# Altium integrated library MainBoard.IntLib: 44 symbols
Pins are listed as number, name and electrical type; pins without a type are passive.

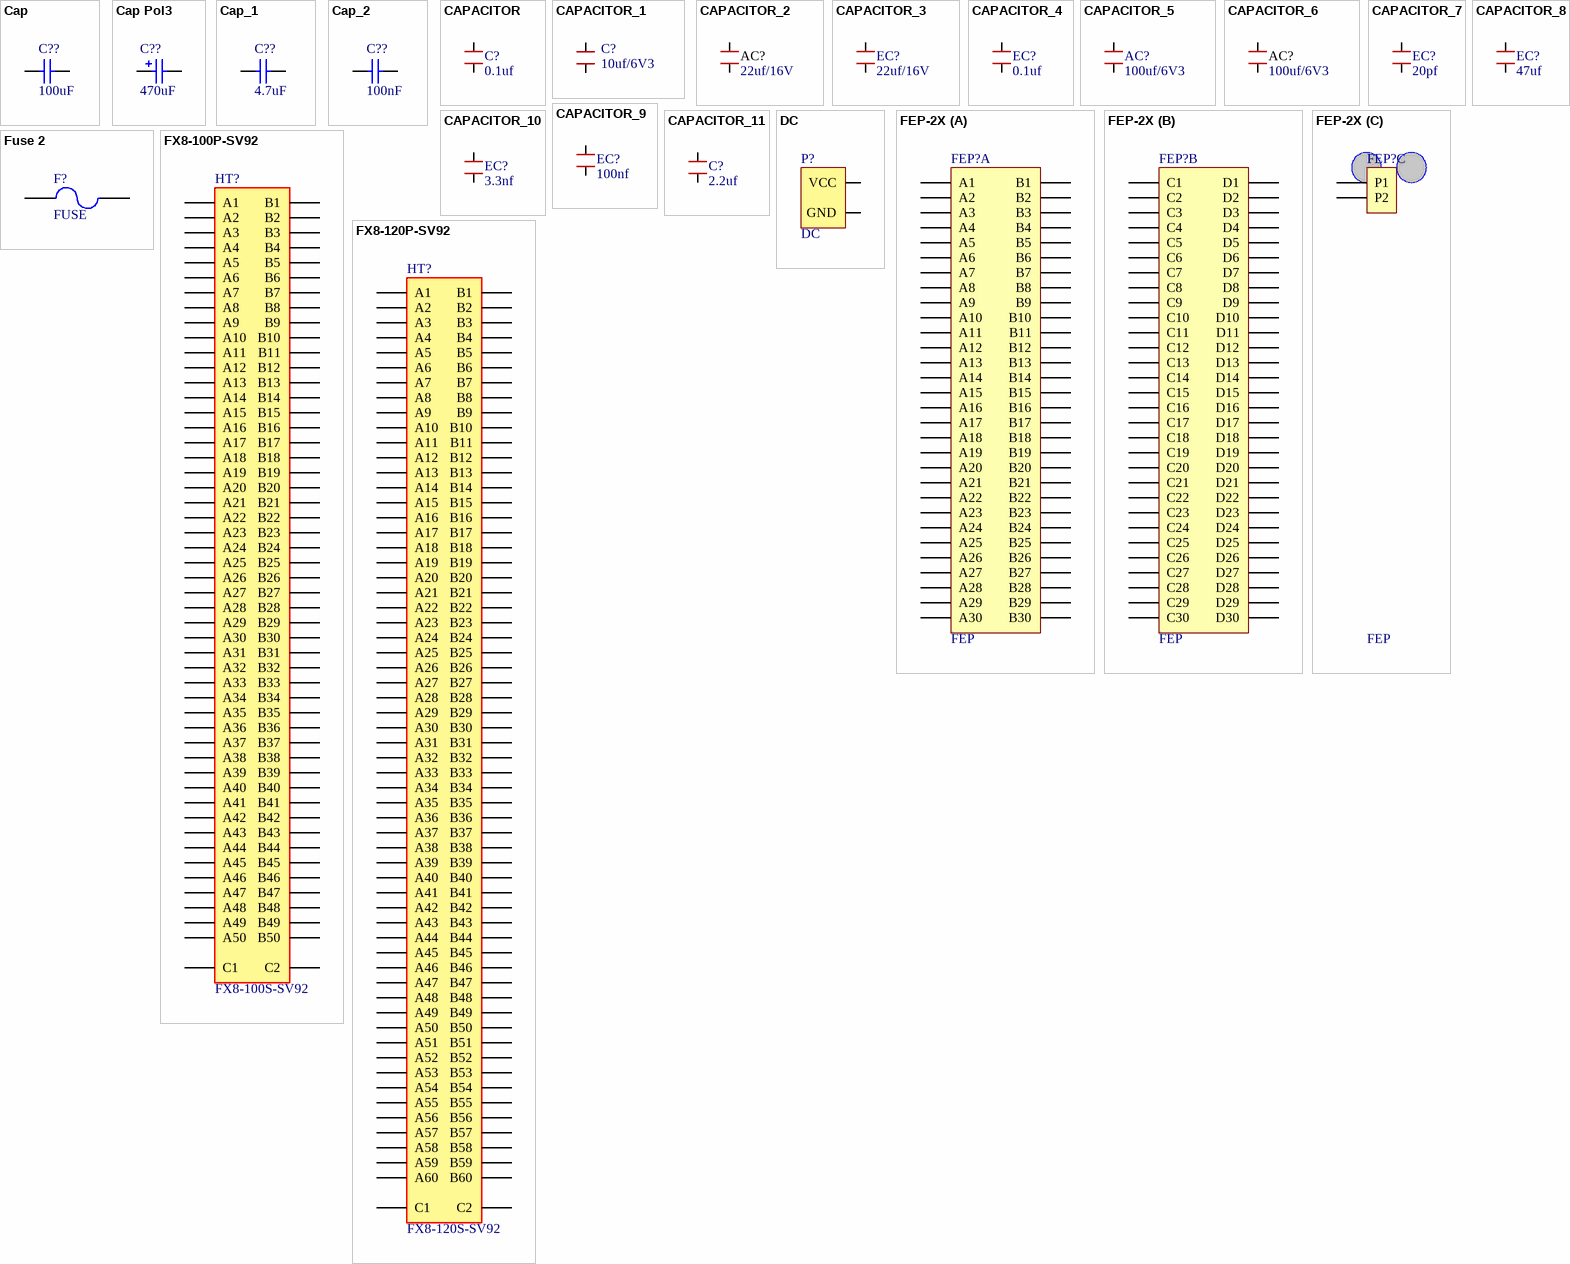
[diagram p0: symbols Cap to FX8-120P-SV92]

## Cap
designator C??  value 100uF  (hidden comment: Cap)
Capacitor; Published: 8-Jun-2000; LatestRevisionDate: 17-Jul-2002; LatestRevisionNote: Re-released for DXP Platform.; PackageReference: RAD-0.3; Publisher: Altium Limited; PackageDescription: Radial Cap, Thru-Hole; 2 Leads; 0.3 in Pin Spacing
footprint RAD-0.3 (Radial Cap, Thru-Hole; 2 Leads; 0.3 in Pin Spacing)
simulation model CAP (Capacitor)
signal-integrity model Cap
pins: 1, 2

## Cap Pol3
designator C??  value 470uF  (hidden comment: Cap Pol3)
Polarized Capacitor (Surface Mount); Published: 8-Jun-2000; LatestRevisionDate: 29-May-2009; LatestRevisionNote: IPC-7351 Footprint Added.; PackageReference: C0805; Publisher: Altium Limited; PackageDescription: Chip Capacitor
footprint C0805 (Chip Capacitor, Body 2.0x1.3mm, IPC High Density)
footprint 1812 (Chip Capacitor, Body 4.5x3.2mm, IPC High Density)
footprint 1825 (Chip Capacitor, Body 4.5x6.4mm, IPC High Density)
footprint C2225 (Chip Capacitor, Body 5.7x6.4mm, IPC High Density)
footprint 2220 (Chip Capacitor, Body 5.7x5.0mm, IPC High Density)
simulation model CAP (Capacitor)
signal-integrity model Cap Pol
pins: 1, 2
1 alternate drawing of the same symbol

## Cap_1
designator C??, comment value 4.7uF  (hidden comment: Cap)
Capacitor; Published: 8-Jun-2000; LatestRevisionDate: 17-Jul-2002; LatestRevisionNote: Re-released for DXP Platform.; PackageReference: RAD-0.3; Publisher: Altium Limited; PackageDescription: Radial Cap, Thru-Hole; 2 Leads; 0.3 in Pin Spacing
footprint RAD-0.3 (Radial Cap, Thru-Hole; 2 Leads; 0.3 in Pin Spacing)
simulation model CAP (Capacitor)
signal-integrity model Cap
pins: 1, 2

## Cap_2
designator C??, comment value 100nF  (hidden comment: Cap)
Capacitor; Published: 8-Jun-2000; LatestRevisionDate: 17-Jul-2002; LatestRevisionNote: Re-released for DXP Platform.; PackageReference: RAD-0.3; Publisher: Altium Limited; PackageDescription: Radial Cap, Thru-Hole; 2 Leads; 0.3 in Pin Spacing
footprint RAD-0.3 (Radial Cap, Thru-Hole; 2 Leads; 0.3 in Pin Spacing)
simulation model CAP (Capacitor)
signal-integrity model Cap
pins: 1, 2

## CAPACITOR
designator C?, comment 0.1uf
Generic Capacitor; DPN: *; Manufacturer: *
footprint CAP0402
footprint CAP0603 (Chip Capacitor, 2-Leads, Body 1.6x0.8mm, IPC High Density)
footprint CAP0805 (Chip Capacitor, 2-Leads, Body 2.0x1.3mm, IPC High Density)
footprint CAP1210 (Chip Capacitor, 2-Leads, Body 3.2x2.5mm, IPC High Density)
pins: 1, 2

## CAPACITOR_1
designator C?, comment 10uf/6V3
Generic Capacitor; Value: 4.7uF; DPN: *; Manufacturer: *
footprint CAP0402 (Chip Capacitor, 2-Leads, Body 1.0x0.5mm, IPC High Density)
footprint CAP0603
footprint CAP0805 (Chip Capacitor, 2-Leads, Body 2.0x1.3mm, IPC High Density)
footprint CAP1210 (Chip Capacitor, 2-Leads, Body 3.2x2.5mm, IPC High Density)
pins: 1, 2

## CAPACITOR_2
designator AC?, comment 22uf/16V
Generic Capacitor; Value: 10nF; DPN: *; Manufacturer: *
footprint 0402C
footprint CAP1206
footprint CAP0805 (Chip Capacitor, 2-Leads, Body 2.0x1.3mm, IPC High Density)
footprint CAP1210 (Chip Capacitor, 2-Leads, Body 3.2x2.5mm, IPC High Density)
pins: 1, 2

## CAPACITOR_3
designator EC?, comment 22uf/16V
Generic Capacitor; DPN: *; Manufacturer: *
footprint CAP0402
footprint CAP1206 (Footprint not found)
footprint CAP0603
footprint CAP1210 (Chip Capacitor, 2-Leads, Body 3.2x2.5mm, IPC High Density)
pins: 1, 2

## CAPACITOR_4
designator EC?, comment 0.1uf
Generic Capacitor; DPN: *; Manufacturer: *
footprint CAP0402
footprint CAP0603 (Chip Capacitor, 2-Leads, Body 1.6x0.8mm, IPC High Density)
footprint CAP1206 (Footprint not found)
footprint CAP1210 (Chip Capacitor, 2-Leads, Body 3.2x2.5mm, IPC High Density)
pins: 1, 2

## CAPACITOR_5
designator AC?, comment 100uf/6V3
Generic Capacitor; DPN: *; Manufacturer: *
footprint CAP0402
footprint CAP1206 (Footprint not found)
footprint CAP1206 (Footprint not found)
footprint CAP1210 (Chip Capacitor, 2-Leads, Body 3.2x2.5mm, IPC High Density)
pins: 1, 2

## CAPACITOR_6
designator AC?, comment 100uf/6V3
Generic Capacitor; Value: 10nF; DPN: *; Manufacturer: *
footprint 0402C
footprint CAP1206 (Footprint not found)
footprint CAP0805 (Chip Capacitor, 2-Leads, Body 2.0x1.3mm, IPC High Density)
footprint CAP1210 (Chip Capacitor, 2-Leads, Body 3.2x2.5mm, IPC High Density)
pins: 1, 2

## CAPACITOR_7
designator EC?, comment 20pf
Generic Capacitor; DPN: *; Manufacturer: *
footprint CAP0402
footprint CAP0603 (Chip Capacitor, 2-Leads, Body 1.6x0.8mm, IPC High Density)
footprint CAP1206 (Footprint not found)
footprint CAP1210 (Chip Capacitor, 2-Leads, Body 3.2x2.5mm, IPC High Density)
pins: 1, 2

## CAPACITOR_8
designator EC?, comment 47uf
Generic Capacitor; DPN: *; Manufacturer: *
footprint CAP0402
footprint CAP0603
footprint CAP1206 (Footprint not found)
footprint CAP1210 (Chip Capacitor, 2-Leads, Body 3.2x2.5mm, IPC High Density)
pins: 1, 2

## CAPACITOR_9
designator EC?, comment 100nf
Generic Capacitor; DPN: *; Manufacturer: *
footprint CAP0402
footprint CAP0402
footprint CAP1206 (Footprint not found)
footprint CAP1210 (Chip Capacitor, 2-Leads, Body 3.2x2.5mm, IPC High Density)
pins: 1, 2

## CAPACITOR_10
designator EC?, comment 3.3nf
Generic Capacitor; DPN: *; Manufacturer: *
footprint CAP0402
footprint CAP0603 (Chip Capacitor, 2-Leads, Body 1.6x0.8mm, IPC High Density)
footprint CAP1206 (Footprint not found)
footprint CAP1210 (Chip Capacitor, 2-Leads, Body 3.2x2.5mm, IPC High Density)
pins: 1, 2

## CAPACITOR_11
designator C?, comment 2.2uf
Generic Capacitor; DPN: *; Manufacturer: *
footprint CAP0402
footprint CAP0603 (Chip Capacitor, 2-Leads, Body 1.6x0.8mm, IPC High Density)
footprint CAP0805 (Chip Capacitor, 2-Leads, Body 2.0x1.3mm, IPC High Density)
footprint CAP1210 (Chip Capacitor, 2-Leads, Body 3.2x2.5mm, IPC High Density)
pins: 1, 2

## DC
designator P?
footprint DC2.5
footprint DC5.0
footprint DC031A
pins: 1 VCC, 2 GND

## FEP-2X
designator FEP?, comment FEP
footprint FEP-X2
part A pins: A1, A2, A3, A4, A5, A6, A7, A8, A9, A10, A11, A12, A13, A14, A15, A16, A17, A18, A19, A20, A21, A22, A23, A24, A25, A26, A27, A28, A29, A30, B1, B2, B3, B4, B5, B6, B7, B8, B9, B10, B11, B12, B13, B14, B15, B16, B17, B18, B19, B20, B21, B22, B23, B24, B25, B26, B27, B28, B29, B30
part B pins: C1, C2, C3, C4, C5, C6, C7, C8, C9, C10, C11, C12, C13, C14, C15, C16, C17, C18, C19, C20, C21, C22, C23, C24, C25, C26, C27, C28, C29, C30, D1, D2, D3, D4, D5, D6, D7, D8, D9, D10, D11, D12, D13, D14, D15, D16, D17, D18, D19, D20, D21, D22, D23, D24, D25, D26, D27, D28, D29, D30
part C pins: P1, P2

## Fuse 2
designator F?, comment FUSE
Published: 8-Jun-2000; LatestRevisionDate: 17-Jul-2002; LatestRevisionNote: Re-released for DXP Platform.; PackageReference: PIN-W2/E2.8; Publisher: Altium Limited
footprint 1206
simulation model FUSE (Spice Subcircuit)
pins: 1, 2

## FX8-100P-SV92
designator HT?, comment FX8-100S-SV92
footprint FX8-100S-SV92
pins: A1, A2, A3, A4, A5, A6, A7, A8, A9, A10, A11, A12, A13, A14, A15, A16, A17, A18, A19, A20, A21, A22, A23, A24, A25, A26, A27, A28, A29, A30, A31, A32, A33, A34, A35, A36, A37, A38, A39, A40, A41, A42, A43, A44, A45, A46, A47, A48, A49, A50, B1, B2, B3, B4, B5, B6, B7, B8, B9, B10, B11, B12, B13, B14, B15, B16, B17, B18, B19, B20, B21, B22, B23, B24, B25, B26, B27, B28, B29, B30, B31, B32, B33, B34, B35, B36, B37, B38, B39, B40, B41, B42, B43, B44, B45, B46, B47, B48, B49, B50, C1, C2

## FX8-120P-SV92
designator HT?, comment FX8-120S-SV92
footprint FX8-120S-SV92
pins: A1, A2, A3, A4, A5, A6, A7, A8, A9, A10, A11, A12, A13, A14, A15, A16, A17, A18, A19, A20, A21, A22, A23, A24, A25, A26, A27, A28, A29, A30, A31, A32, A33, A34, A35, A36, A37, A38, A39, A40, A41, A42, A43, A44, A45, A46, A47, A48, A49, A50, A51, A52, A53, A54, A55, A56, A57, A58, A59, A60, B1, B2, B3, B4, B5, B6, B7, B8, B9, B10, B11, B12, B13, B14, B15, B16, B17, B18, B19, B20, B21, B22, B23, B24, B25, B26, B27, B28, B29, B30, B31, B32, B33, B34, B35, B36, B37, B38, B39, B40, B41, B42, B43, B44, B45, B46, B47, B48, B49, B50, B51, B52, B53, B54, B55, B56, B57, B58, B59, B60, C1, C2

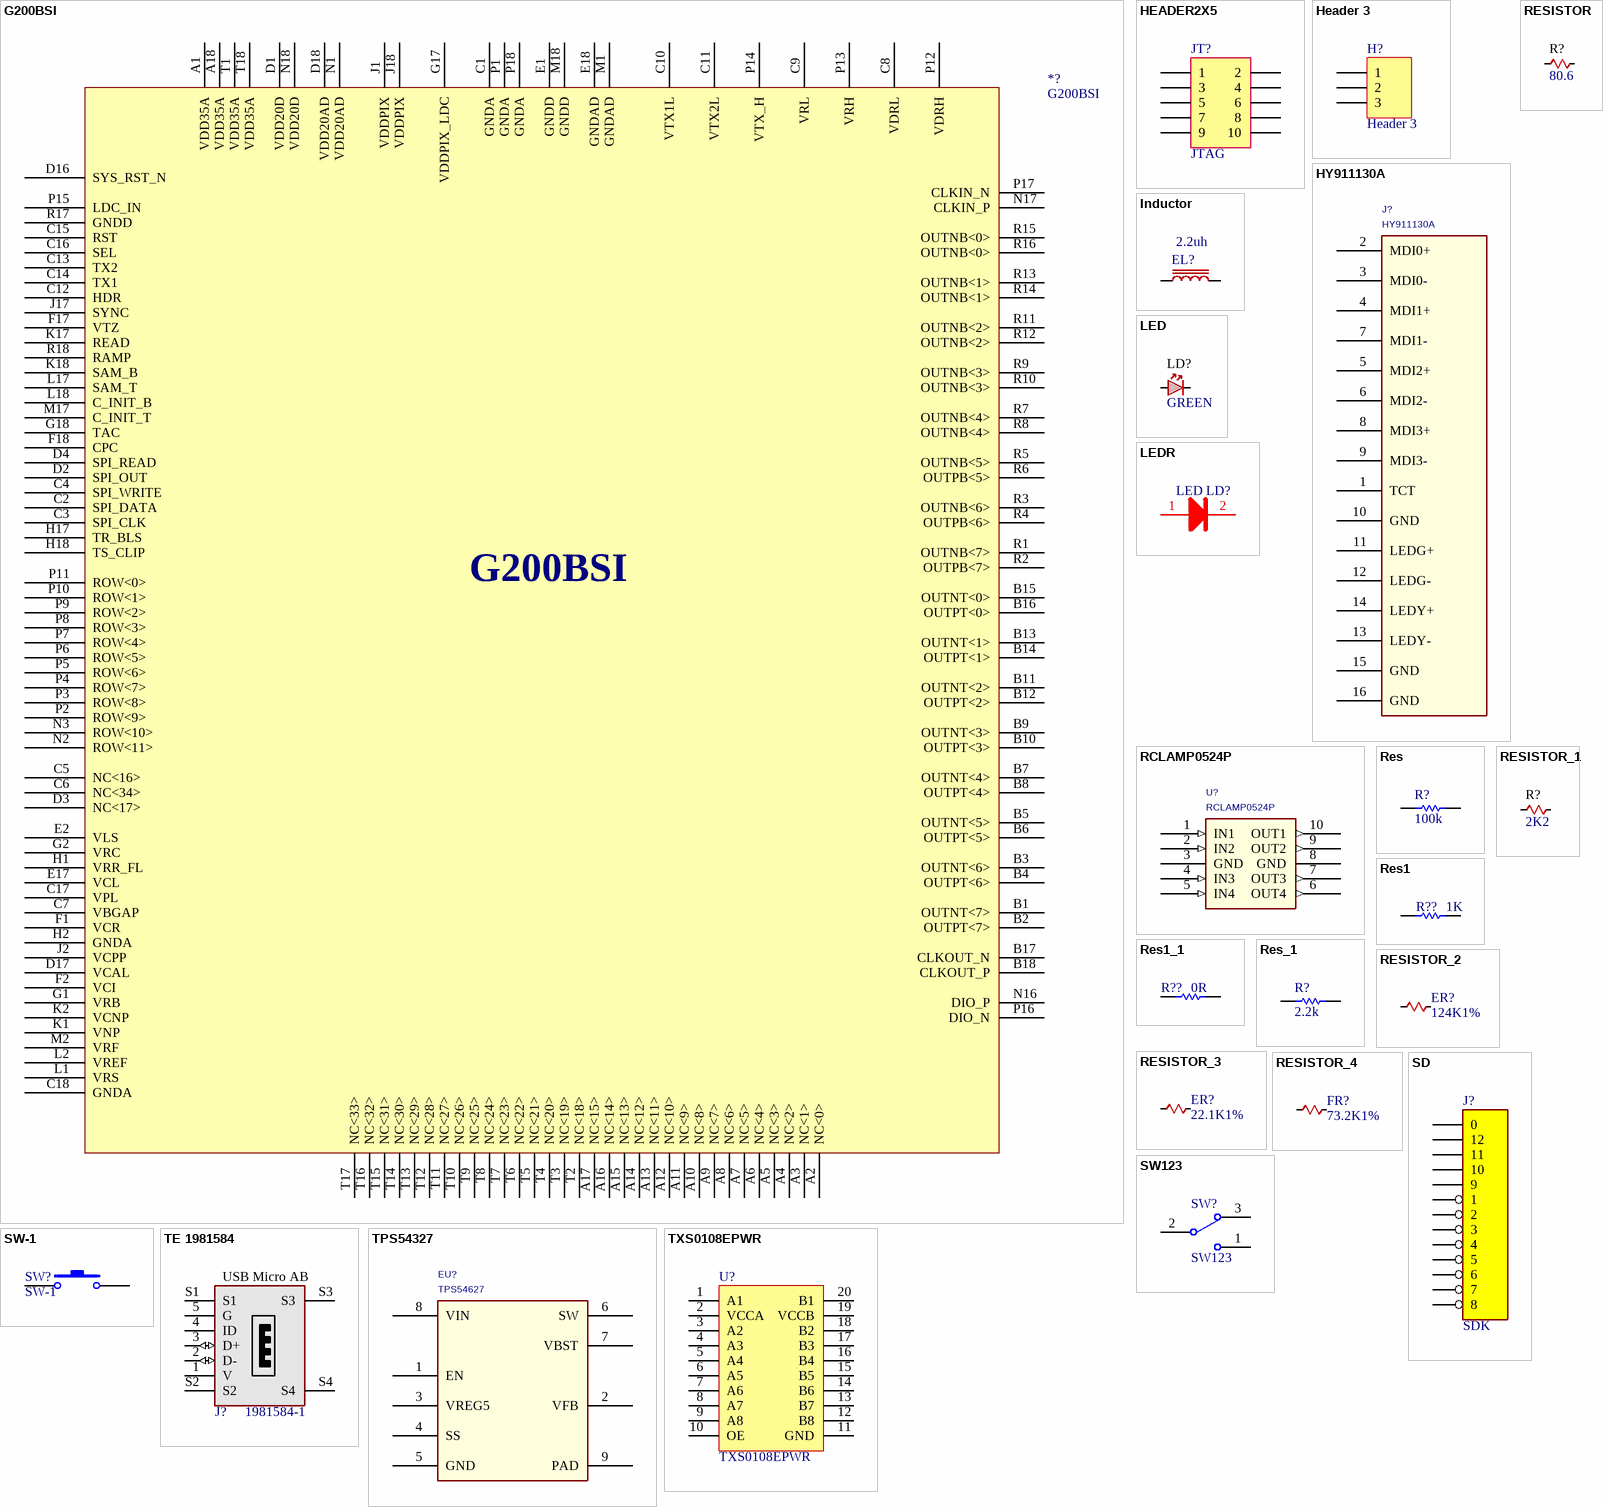
[diagram p1: symbols G200BSI to TXS0108EPWR]

## G200BSI
designator *?
pins: A1 VDD35A, A2 NC<0>, A3 NC<1>, A4 NC<2>, A5 NC<3>, A6 NC<4>, A7 NC<5>, A8 NC<6>, A9 NC<7>, A10 NC<8>, A11 NC<9>, A12 NC<10>, A13 NC<11>, A14 NC<12>, A15 NC<13>, A16 NC<14>, A17 NC<15>, A18 VDD35A, B1 OUTNT<7>, B2 OUTPT<7>, B3 OUTNT<6>, B4 OUTPT<6>, B5 OUTNT<5>, B6 OUTPT<5>, B7 OUTNT<4>, B8 OUTPT<4>, B9 OUTNT<3>, B10 OUTPT<3>, B11 OUTNT<2>, B12 OUTPT<2>, B13 OUTNT<1>, B14 OUTPT<1>, B15 OUTNT<0>, B16 OUTPT<0>, B17 CLKOUT_N, B18 CLKOUT_P, C1 GNDA, C2 SPI_DATA, C3 SPI_CLK, C4 SPI_WRITE, C5 NC<16>, C6 NC<34>, C7 VBGAP, C8 VDRL, C9 VRL, C10 VTX1L, C11 VTX2L, C12 HDR, C13 TX2, C14 TX1, C15 RST, C16 SEL, C17 VPL, C18 GNDA, D1 VDD20D, D2 SPI_OUT, D3 NC<17>, D4 SPI_READ, D16 SYS_RST_N, D17 VCAL, D18 VDD20AD, E1 GNDD, E2 VLS, E17 VCL, E18 GNDAD, F1 VCR, F2 VCI, F17 VTZ, F18 CPC, G1 VRB, G2 VRC, G17 VDDPIX_LDC, G18 TAC, H1 VRR_FL, H2 GNDA, H17 TR_BLS, H18 TS_CLIP, J1 VDDPIX, J2 VCPP, J17 SYNC, J18 VDDPIX, K1 VNP, K2 VCNP, K17 READ, K18 SAM_B, L1 VRS, L2 VREF, L17 SAM_T, L18 C_INIT_B, M1 GNDAD, M2 VRF, M17 C_INIT_T, M18 GNDD, N1 VDD20AD, N2 ROW<11>, N3 ROW<10>, N16 DIO_P, N17 CLKIN_P, N18 VDD20D, P1 GNDA, P2 ROW<9>, P3 ROW<8>, P4 ROW<7>, P5 ROW<6>, P6 ROW<5>, P7 ROW<4>, P8 ROW<3>, P9 ROW<2>, P10 ROW<1>, P11 ROW<0>, P12 VDRH, P13 VRH, P14 VTX_H, P15 LDC_IN, P16 DIO_N, P17 CLKIN_N, P18 GNDA, R1 OUTNB<7>, R2 OUTPB<7>, R3 OUTNB<6>, R4 OUTPB<6>, R5 OUTNB<5>, R6 OUTPB<5>, R7 OUTNB<4>, R8 OUTNB<4>, R9 OUTNB<3>, R10 OUTNB<3>, R11 OUTNB<2>, R12 OUTNB<2>, R13 OUTNB<1>, R14 OUTNB<1>, R15 OUTNB<0>, R16 OUTNB<0>, R17 GNDD, R18 RAMP, T1 VDD35A, T2 NC<18>, T3 NC<19>, T4 NC<20>, T5 NC<21>, T6 NC<22>, T7 NC<23>, T8 NC<24>, T9 NC<25>, T10 NC<26>, T11 NC<27>, T12 NC<28>, T13 NC<29>, T14 NC<30>, T15 NC<31>, T16 NC<32>, T17 NC<33>, T18 VDD35A

## HEADER2X5
designator JT?, comment JTAG
footprint HEADER2X5X2.5
footprint HEADER5X2X2.0T
footprint HEADER2X5-2.0
pins: 1, 2, 3, 4, 5, 6, 7, 8, 9, 10

## Header 3
designator H?
Header, 3-Pin; LatestRevisionDate: 17-Jul-2002; LatestRevisionNote: Re-released for DXP Platform.; Publisher: Altium Limited
footprint HDR1X3 (Connector; Header; 3 Position)
signal-integrity model Connector
footprint CON3
footprint HD3
footprint KF7.62-3
pins: 1, 2, 3

## HY911130A
designator J?
footprint HY911130A
pins: 1 TCT, 2 MDI0+, 3 MDI0-, 4 MDI1+, 5 MDI2+, 6 MDI2-, 7 MDI1-, 8 MDI3+, 9 MDI3-, 10 GND (power), 11 LEDG+, 12 LEDG-, 13 LEDY-, 14 LEDY+, 15 GND (power), 16 GND (power)

## Inductor
designator EL?, comment 2.2uh
Generic Inductor; DPN: *; Manufacturer: *
footprint L4X4X2 (Footprint not found)
footprint CR43 (CR series Power Inductor SMT 4.5x5mm (Sumida))
footprint NP04SZ (NP04SZ series Power Inductor SMT 5x5mm (Taiyo Yuden))
footprint IND1210 (Chip Inductor, 2-Leads, Body 3.2x2.5mm)
footprint IND0402 (Chip Inductor 2-Leads, Body 1.0x0.5mm, IPC High Density)
footprint MSS1048 (Power Inductor SMT 10x10.2mm (Coilcraft)
footprint IND0603 (Chip Inductor, 2-Leads, Body 1.6x0.8mm, IPC High Density)
footprint NRS5012 (NRS5012 series Power Inductor SMT 5x5mm (Taiyo Yuden))
footprint SDR0302 (SDR0302 series Power Inductor SMT 3x3mm (Bourns))
footprint L4X4X2 (Footprint not found)
footprint SD5012D (SDS5012D Inductor Package, 5.3x5.2mm (Coilcraft))
pins: 1, 2

## LED
designator LD?  value GREEN  (hidden comment: LED)
Generic LED; Manufacturer: *; DPN: *
footprint D0603
pins: A, K

## LEDR
designator LD?, comment LED
footprint 0603D
footprint LED-M
pins: 1, 2

## RCLAMP0524P
designator U?
footprint SLP2510P8_10
pins: 1 IN1 (in), 2 IN2 (in), 3 GND (power), 4 IN3 (in), 5 IN4 (in), 6 OUT4 (out), 7 OUT3 (out), 8 GND (power), 9 OUT2 (out), 10 OUT1 (out)

## Res
designator R?, comment 100k
1K
footprint RES0402
footprint 0603
footprint 0805
footprint 1206R
pins: 1, 2

## Res1
designator R??  value 1K  (hidden comment: Res1)
Resistor; Published: 8-Jun-2000; LatestRevisionDate: 17-Jul-2002; LatestRevisionNote: Re-released for DXP Platform.; PackageReference: AXIAL-0.3; Publisher: Altium Limited; PackageDescription: Axial Device, Thru-Hole; 2 Leads; 0.3 in Pin Spacing
footprint AXIAL-0.3 (Axial Device, Thru-Hole; 2 Leads; 0.3 in Pin Spacing)
simulation model RESISTOR (Resistor)
signal-integrity model Res
pins: 1, 2

## Res1_1
designator R??, comment value 0R  (hidden comment: Res1)
Resistor; Published: 8-Jun-2000; LatestRevisionDate: 17-Jul-2002; LatestRevisionNote: Re-released for DXP Platform.; PackageReference: AXIAL-0.3; Publisher: Altium Limited; PackageDescription: Axial Device, Thru-Hole; 2 Leads; 0.3 in Pin Spacing
footprint AXIAL-0.3 (Axial Device, Thru-Hole; 2 Leads; 0.3 in Pin Spacing)
simulation model RESISTOR (Resistor)
signal-integrity model Res
pins: 1, 2

## Res_1
designator R?, comment 2.2k
1K
footprint RES0402
footprint 0603
footprint 0805
footprint 1206R
pins: 1, 2

## RESISTOR
designator R?, comment 80.6
Generic Resistor; Value: 10K; Manufacturer: *; DPN: *
footprint RES0402
footprint RES0805 (Resistor, 2-Leads, Body 2.0x1.3mm, IPC High Density)
pins: 1, 2

## RESISTOR_1
designator R?, comment 2K2
Generic Resistor; Value: 390; Manufacturer: *; DPN: *
footprint RES0402
footprint RES0805 (Resistor, 2-Leads, Body 2.0x1.3mm, IPC High Density)
pins: 1, 2

## RESISTOR_2
designator ER?, comment 124K1%
Generic Resistor; Value: 4.7K; Manufacturer: *; DPN: *
footprint CAP0603
footprint RES0805 (Resistor, 2-Leads, Body 2.0x1.3mm, IPC High Density)
pins: 1, 2

## RESISTOR_3
designator ER?, comment 22.1K1%
Generic Resistor; Value: 4.7K; Manufacturer: *; DPN: *
footprint CAP0603
footprint RES0805 (Resistor, 2-Leads, Body 2.0x1.3mm, IPC High Density)
pins: 1, 2

## RESISTOR_4
designator FR?, comment 73.2K1%
Generic Resistor; Value: 4.7K; Manufacturer: *; DPN: *
footprint CAP0603
footprint RES0805 (Resistor, 2-Leads, Body 2.0x1.3mm, IPC High Density)
pins: 1, 2

## SD
designator J?, comment SDK
footprint SDKA-X
footprint TF_K
pins: 0, 1, 2, 3, 4, 5, 6, 7, 8, 9, 10, 11, 12

## SW123
designator SW?
footprint SW123 (Footprint not found)
footprint SW1-2-3 -B
pins: 1, 2, 3

## SW-1
designator SW?
SW
footprint SW-3X9
pins: 1, 2

## TE 1981584
designator J?, comment 1981584-1
USB Micro AB connector; Manufacturer: Tyco Electronics; DPN: *
footprint MicroUsb
pins: 1 V (power), 2 D- (io), 3 D+ (io), 4 ID, 5 G (power), S1, S2, S3, S4
text: USB Micro AB

## TPS54327
designator EU?, comment TPS54627
footprint SOP8_EP_127P4X5X1_5
pins: 1 EN, 2 VFB (hiz), 3 VREG5 (power), 4 SS, 5 GND (power), 6 SW (power), 7 VBST (power), 8 VIN (power), 9 PAD (power)

## TXS0108EPWR
designator U?
footprint TSSOP20_6.5_4.4
pins: 1 A1, 2 VCCA, 3 A2, 4 A3, 5 A4, 6 A5, 7 A6, 8 A7, 9 A8, 10 OE, 11 GND, 12 B8, 13 B7, 14 B6, 15 B5, 16 B4, 17 B3, 18 B2, 19 VCCB, 20 B1